# EAGLE library part FS20-FUNKMODUL (library 1A-meinLib)
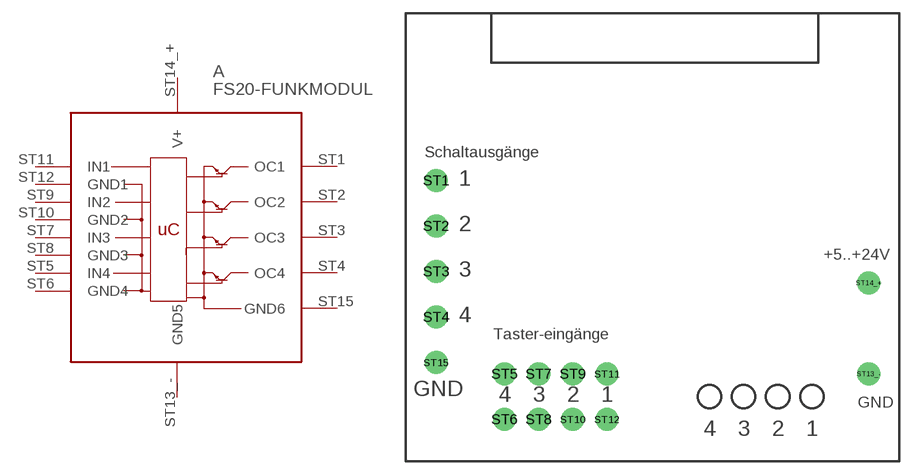
[diagram p293: symbol with the pads of FS20-SCHALTMODUL; footprint FS20-SCHALTMODUL]

Designator prefix A

## FS20-FUNKMODUL  [FS20-SCHALTMODUL]
ST1  OC1  oc
ST2  OC2  oc
ST3  OC3  oc
ST4  OC4  oc
ST5  IN4  in
ST6  GND4  pas
ST7  IN3  in
ST8  GND3  pas
ST9  IN2  in
ST10  GND2  pas
ST11  IN1  in
ST12  GND1  pas
ST13_-  GND5  pwr
ST14_+  V+  pwr
ST15  GND6  pas

## Footprint FS20-SCHALTMODUL (pad centres in mm)
4-Kanal Funkschaltmodul FS20, ELV, 5..24VDC, 10mA, 868.35MHz, Open Kollektor: 92V/100mA, Typ 46119, ELV
drill 0.8 pad 2.54 round: ST1 -24.13,6.35; ST2 -24.13,1.27; ST3 -24.13,-3.81; ST4 -24.13,-8.89; ST5 -16.51,-15.24; ST6 -16.51,-20.32; ST7 -12.7,-15.24; ST8 -12.7,-20.32; ST9 -8.89,-15.24; ST10 -8.89,-20.32; ST11 -5.08,-15.24; ST12 -5.08,-20.32; ST13_- 24.13,-15.24; ST14_+ 24.13,-5.08; ST15 -24.13,-13.97